# Altium schematic symbol library Basic.SchLib: 12 symbols
Pins are listed as number, name and electrical type; pins without a type are passive.

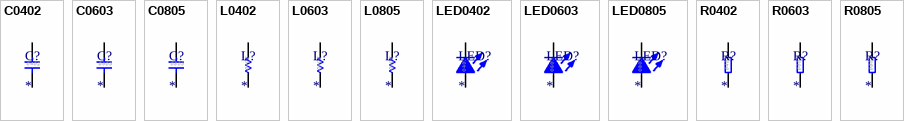
[diagram p0: symbols C0402 to R0805]

## C0402
designator C?
容值,精度,额定电压
footprint C0402 (Footprint not found)
pins: 1, 2
text: 0402

## C0603
designator C?
容值,精度,额定电压
footprint C0603 (Footprint not found)
pins: 1, 2
text: 0603

## C0805
designator C?
容值,精度,额定电压
footprint C0805 (Footprint not found)
pins: 1, 2
text: 0805

## L0402
designator L?
电感值,精度,额定电流
footprint L0402 (Footprint not found)
pins: 1, 2
text: 0402

## L0603
designator L?
电感值,精度,额定电流
footprint L0603 (Footprint not found)
pins: 1, 2
text: 0603

## L0805
designator L?
电感值,精度,额定电流
footprint L0805 (Footprint not found)
pins: 1, 2
text: 0805

## LED0402
designator LED?
发光颜色
footprint D0402 (Footprint not found)
pins: A, K
text: 0402

## LED0603
designator LED?
发光颜色
footprint D0603 (Footprint not found)
pins: A, K
text: 0603

## LED0805
designator LED?
发光颜色
footprint D0805 (Footprint not found)
pins: A, K
text: 0805

## R0402
designator R?
阻值,精度,电阻类型
footprint R0402 (Footprint not found)
pins: 1, 2
text: 0402

## R0603
designator R?
阻值,精度,电阻类型
footprint R0603 (Footprint not found)
pins: 1, 2
text: 0603

## R0805
designator R?
阻值,精度,电阻类型
footprint R0805 (Footprint not found)
pins: 1, 2
text: 0805